# EAGLE library part MAX9113 (library LVDS)
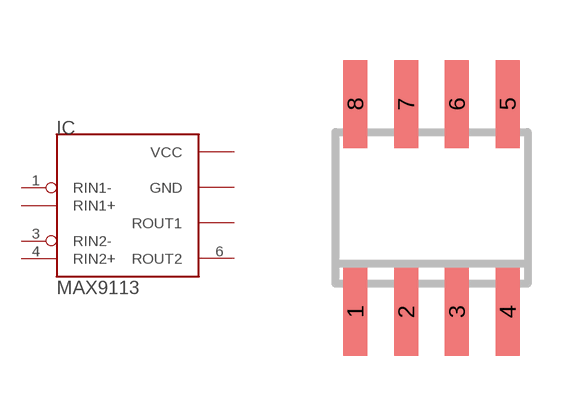
[diagram p1: symbol with the pads of SO8; footprint SO8]

Designator prefix IC

## MAX9113SO8  [SO8]
1  RIN1-
2  RIN1+
3  RIN2-
4  RIN2+
5  GND
6  ROUT2
7  ROUT1
8  VCC

## Footprint SO8 (pad centres in mm)
SMALL OUTLINE INTEGRATED CIRCUIT
smd 0.6 x 2.2: 1 -1.905,-2.6; 2 -0.635,-2.6; 3 0.635,-2.6; 4 1.905,-2.6; 5 1.905,2.6; 6 0.635,2.6; 7 -0.635,2.6; 8 -1.905,2.6